# Altium schematic symbol library Res_Bourns_3296W-1-202LF_eec.SchLib: 1 symbol
Pins are listed as number, name and electrical type; pins without a type are passive.

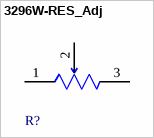
[diagram p0: symbol 3296W-RES_Adj]

## 3296W-RES_Adj
designator R?  (value not drawn)
footprint Bourns_3296W_MFG
pins: 1 CCW, 2 WIPER, 3 CW